# EAGLE library part MCP4802-E/SN (library 029000100  -  gKEagleLibrary)
DAC 8BIT DUAL SPI/VREF
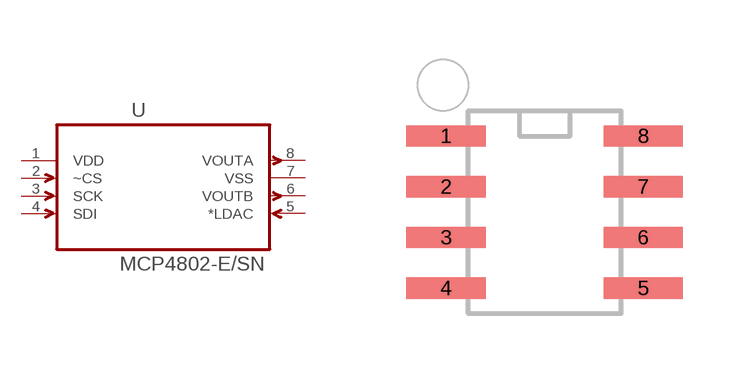
[diagram p36: symbol with the pads of SOIC127P600X175-8N; footprint SOIC127P600X175-8N]

Designator prefix U

## MCP4802-E/SN (MPN: MCP4802-E/SN; OC_FARNELL: 1834911; OC_NEWARK: 53R0073; PACKAGE: 8 SOIC; SUPPLIER: Microchip)  [SOIC127P600X175-8N]
1  VDD  pwr
2  ~CS  in
3  SCK  in
4  SDI  in
5  *LDAC  in
6  VOUTB  out
7  VSS  pwr
8  VOUTA  out

## Footprint SOIC127P600X175-8N (pad centres in mm)
smd 1.981 x 0.533: 1 -2.464,1.905; 2 -2.464,0.635; 3 -2.464,-0.635; 4 -2.464,-1.905; 5 2.464,-1.905; 6 2.464,-0.635; 7 2.464,0.635; 8 2.464,1.905